# EAGLE library part SI7601 (library satellite)
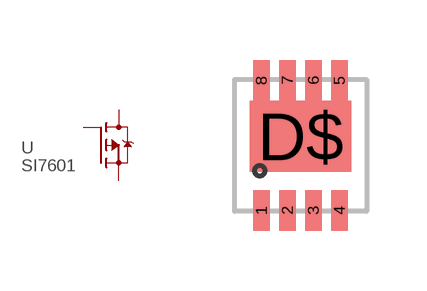
[diagram p22: symbol with the pads of POWERPAK_1212-8; footprint POWERPAK_1212-8]

Designator prefix -

## SI7601  [POWERPAK_1212-8]
1  S1  pas
2  S2  pas
3  S3  pas
4  G  pas
5  D1  pas
6  D2  pas
7  D3  pas
8  D4  pas
D$  D5  pas

## Footprint POWERPAK_1212-8 (pad centres in mm)
smd 0.406 x 1.016: 1 -0.975,-1.625; 2 -0.325,-1.625; 3 0.325,-1.625; 4 0.975,-1.625; 5 0.975,1.625; 6 0.325,1.625; 7 -0.325,1.625; 8 -0.975,1.625
smd 2.54 x 1.778: D$ 0,0.229